# Altium schematic symbol library CPH-E55_28_21-1S-22P-Z.SchLib: 1 symbol
Pins are listed as number, name and electrical type; pins without a type are passive.

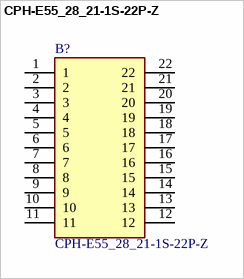
[diagram p0: symbol CPH-E55_28_21-1S-22P-Z]

## CPH-E55_28_21-1S-22P-Z
designator B?
COIL FORMER HORIZONTAL; Manufacturer_Name: FERROXCUBE; Manufacturer_Part_Number: CPH-E55/28/21-1S-22P-Z; Geometry.Height: 40.5mm; Mouser Part Number: *; Mouser Price/Stock: *; Arrow Part Number: *; Arrow Price/Stock: *; Datasheet Link: https://www.ferroxcube.com/upload/media/product/file/Pr_ds/E55_28_21.pdf
footprint DIPS4000W100P500L5500H4050Q22N
pins: 1, 2, 3, 4, 5, 6, 7, 8, 9, 10, 11, 12, 13, 14, 15, 16, 17, 18, 19, 20, 21, 22